# Altium schematic symbol library CAP,Omit,0402.Schlib: 1 symbol
Pins are listed as number, name and electrical type; pins without a type are passive.

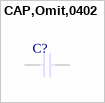
[diagram p0: symbol CAP,Omit,0402]

## CAP,Omit,0402
designator C?, comment Omit  (value not drawn)  (no BOM)
pins: 1, 2